# Altium integrated library TL6120DF300QG.IntLib: 1 symbol
Pins are listed as number, name and electrical type; pins without a type are passive.

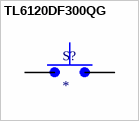
[diagram p0: symbol TL6120DF300QG]

## TL6120DF300QG
designator S?
Tactile Switch SPST-NO Top Actuated Surface Mount; MP: TL6120DF300QG; MF: E-Switch; SnapEDA_Link: https://www.snapeda.com/parts/TL6120DF300QG/E-Switch/view-part/?ref=snap; Package: None; Availability: In Stock; Price: None; Purchase-URL: https://pricing.snapeda.com/search/part/TL6120DF300QG/?ref=eda; Check_prices: https://www.snapeda.com/parts/TL6120DF300QG/E-Switch/view-part/?ref=eda; Value: *
footprint SW_TL6120DF300QG
pins: 1 1_2, 2 1_2, 3 3_4, 4 3_4